# EAGLE library part SIMLOCK492 (library sim)
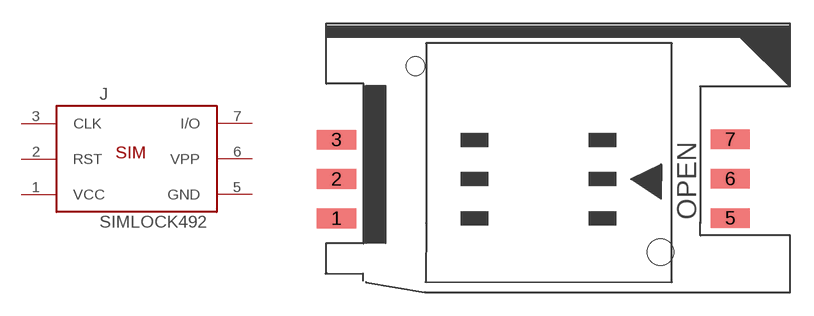
[diagram p0: symbol with the pads of 5002; footprint 5002]

Designator prefix J

## SIMLOCK492  [5002]
1  VCC
2  RST
3  CLK
5  GND
6  VPP
7  I/O

## Footprint 5002 (pad centres in mm)
6 Contacts (3+3), low profile drawn by DeSIG desig@radikaldesig.com
smd 2.54 x 1.27: 1 0.904,0.574; 2 0.904,3.114; 3 0.904,5.654; 5 26.299,0.594; 6 26.299,3.134; 7 26.299,5.674
hole 1.7 at 21.8,-1.6
hole 1.2 at 6,10.4